# Altium footprint library Integrated LED.PcbLib: 1 footprints
Each footprint in its own frame and in the unit in brackets; x right, y up, seen from the top. Pads: shape width x height; smd on the part's side, far side on the other; paste and mask are expansions set on the pad; w line width, h text height; cw(c..) or ccw(c..) is an arc to the next point about the centre after c.
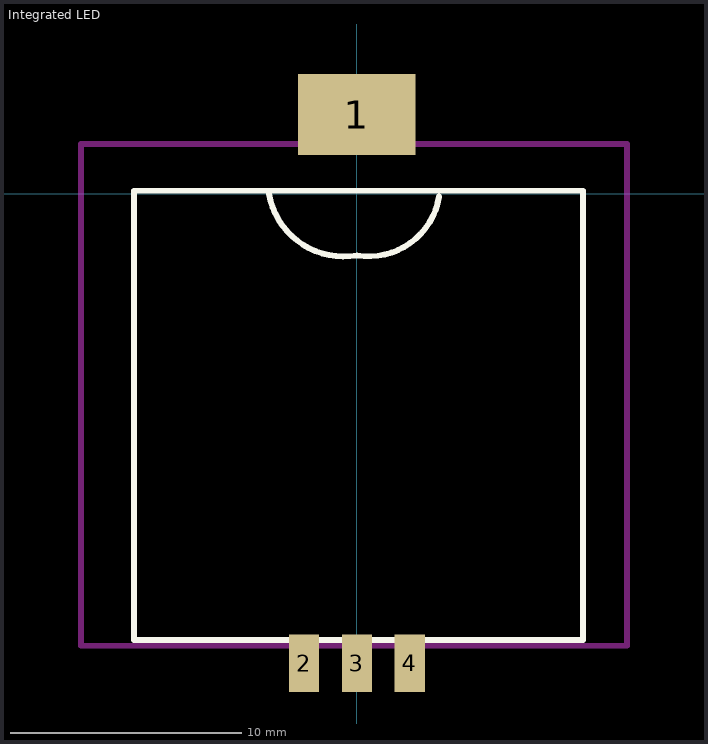
[diagram p0: the footprint, top view; thin cyan lines are the x and y axes]

## Integrated LED [mm] "Integrated LED"
pads (4):
  rect 5.08x3.524 smd: 1(0,3.429)
  rect 1.3x2.5 smd: 2(-2.286,-20.32) 3(0,-20.32) 4(2.286,-20.32)
Top Overlay:
  lines w0.254: -3.81,0 ccw(c-0.572,0.572) 0,-2.667 ccw(c0.508,0.381) 3.556,-0.127 ; -9.652,-19.304 -9.652,0.127 9.779,0.127 9.779,-19.304 -9.652,-19.304
Keep-Out Layer:
  lines w0.254: -11.938,-19.558 -11.938,2.159 11.684,2.159 11.684,-19.558 -11.938,-19.558